# EAGLE library part BGM13P32F512GA (library BGM13P32F512GA)
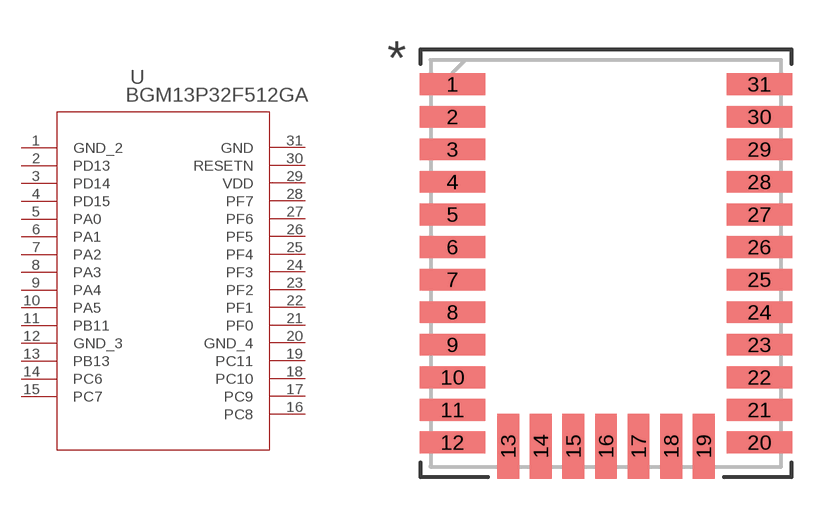
[diagram p0: symbol with the pads of SMD31_15X12P9_SIL; footprint SMD31_15X12P9_SIL]

Designator prefix U

## BGM13P32F512GA (BUILT_BY: EMA_Jessica; COPYRIGHT: Copyright (C) 2018 Accelerated Designs. All rights reserved; MANUFACTURER_PART_NUMBER: BGM13P32F512GA; SOURCELIBRARY: Silicon_Labs_2019-10-28; VENDOR: Silicon Labs)  [SMD31_15X12P9_SIL]
1  GND_2  pwr
2  PD13
3  PD14
4  PD15
5  PA0
6  PA1
7  PA2
8  PA3
9  PA4
10  PA5
11  PB11
12  GND_3  pwr
13  PB13
14  PC6
15  PC7
16  PC8
17  PC9
18  PC10
19  PC11
20  GND_4  pwr
21  PF0
22  PF1
23  PF2
24  PF3
25  PF4
26  PF5
27  PF6
28  PF7
29  VDD  pwr
30  RESETN  in
31  GND  pwr

## Footprint SMD31_15X12P9_SIL (pad centres in mm)
smd 2.4 x 0.8: 1 -5.65,6.6; 2 -5.65,5.4; 3 -5.65,4.2; 4 -5.65,3; 5 -5.65,1.8; 6 -5.65,0.6; 7 -5.65,-0.6; 8 -5.65,-1.8; 9 -5.65,-3; 10 -5.65,-4.2; 11 -5.65,-5.4; 12 -5.65,-6.6; 20 5.65,-6.6; 21 5.65,-5.4; 22 5.65,-4.2; 23 5.65,-3; 24 5.65,-1.8; 25 5.65,-0.6; 26 5.65,0.6; 27 5.65,1.8; 28 5.65,3; 29 5.65,4.2; 30 5.65,5.4; 31 5.65,6.6
smd 0.8 x 2.4: 13 -3.6,-6.74; 14 -2.4,-6.74; 15 -1.2,-6.74; 16 0,-6.74; 17 1.2,-6.74; 18 2.4,-6.74; 19 3.6,-6.74